# Altium integrated library TI Logic Boundary Scan.IntLib: 169 symbols (part 1 of 5)
Pins are listed as number, name and electrical type; pins without a type are passive.

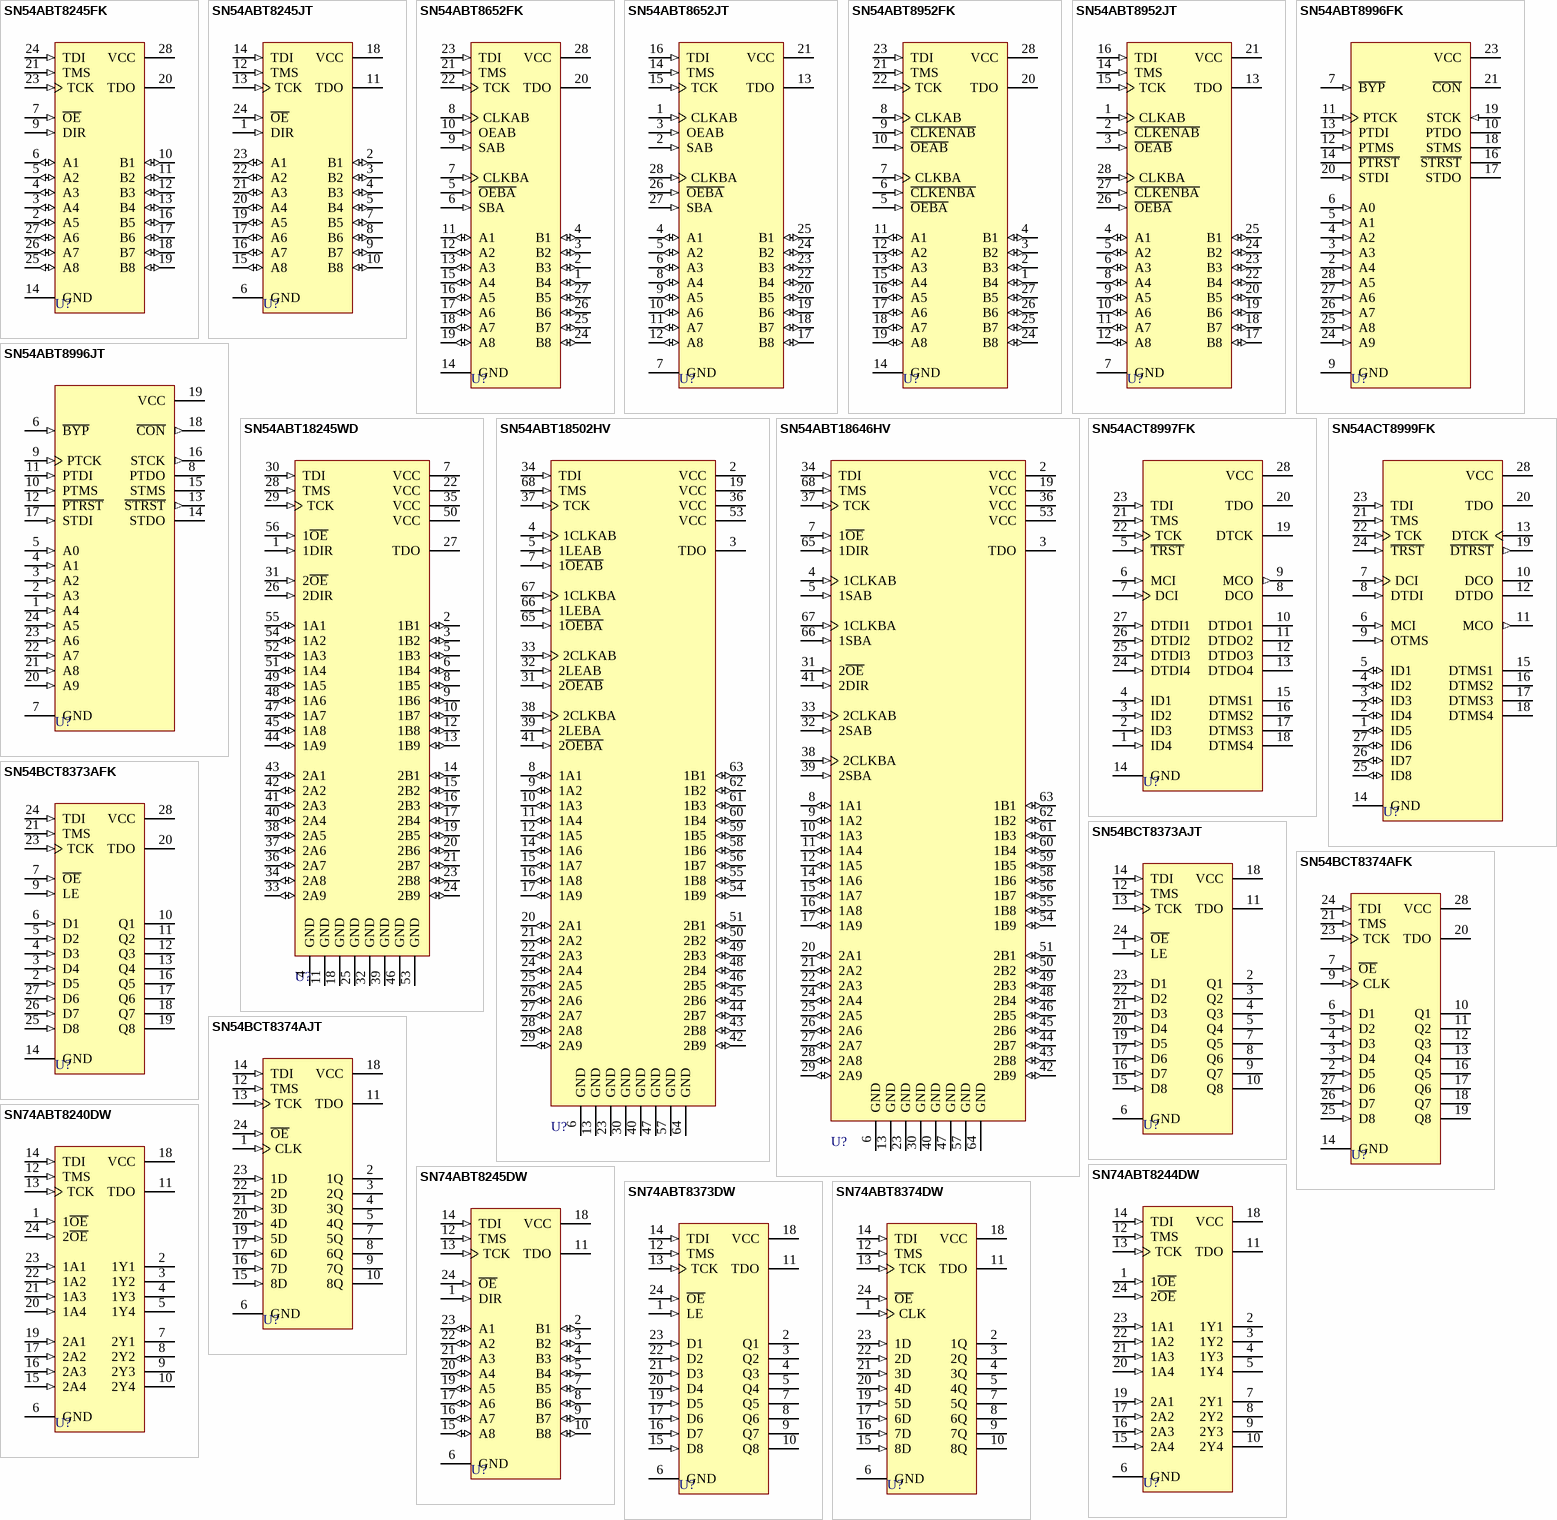
[diagram p0: symbols SN54ABT8245FK to SN74ABT8374DW]

## SN54ABT8245FK
designator U?
Scan Test Device with Octal Bus Transceiver; Note: Pin(s) 1,8,15,22 "No Connection" and not drawn.; Published: 8-Jun-2000; LatestRevisionDate: 17-Jul-2002; LatestRevisionNote: Re-released for DXP Platform.; DatasheetVersion: Dec-1996; PackageVersion: 1998; PackageReference: FK028C; Publisher: Altium Limited; PackageDescription: Leadless Chip Carrier; 28 Terminals; Body 11.4 x 11.4 mm; ComponentLink1Description: Manufacturer Link; ComponentLink1URL: http://www.ti.com/; ComponentLink2Description: Datasheet; ComponentLink2URL: http://www-s.ti.com/sc/ds/sn54abt8245.pdf
footprint FK028C (Leadless Chip Carrier; 28 Terminals; Body 11.4 x 11.4 mm)
signal-integrity model SN54ABT8245FK
pins: 2 A5 (io), 3 A4 (io), 4 A3 (io), 5 A2 (io), 6 A1 (io), 7 ~{OE} (in), 9 DIR (in), 10 B1 (io), 11 B2 (io), 12 B3 (io), 13 B4 (io), 14 GND (power), 16 B5 (io), 17 B6 (io), 18 B7 (io), 19 B8 (io), 20 TDO (hiz), 21 TMS (in), 23 TCK (in), 24 TDI (in), 25 A8 (io), 26 A7 (io), 27 A6 (io), 28 VCC (power)

## SN54ABT8245JT
designator U?
Scan Test Device with Octal Bus Transceiver; Published: 8-Jun-2000; LatestRevisionDate: 06-Jun-2005; LatestRevisionNote: Stylized 3D Model Added.; DatasheetVersion: Dec-1996; PackageVersion: Jan-1997; PackageReference: JT024C; Publisher: Altium Limited; PackageDescription: DIP; 24 Leads; Row Spacing 7.62 mm; Pitch 2.54 mm; Code_JEDEC: MS-001-AF; ComponentLink1Description: Manufacturer Link; ComponentLink1URL: http://www.ti.com/; ComponentLink2Description: Datasheet; ComponentLink2URL: http://www-s.ti.com/sc/ds/sn54abt8245.pdf
footprint JT024C (DIP; 24 Leads; Row Spacing 7.62 mm; Pitch 2.54 mm)
3D model JT024 (DIP; 24 Leads; Row Spacing 7.62 mm; Pitch 2.54 mm)
signal-integrity model SN54ABT8245JT
pins: 1 DIR (in), 2 B1 (io), 3 B2 (io), 4 B3 (io), 5 B4 (io), 6 GND (power), 7 B5 (io), 8 B6 (io), 9 B7 (io), 10 B8 (io), 11 TDO (hiz), 12 TMS (in), 13 TCK (in), 14 TDI (in), 15 A8 (io), 16 A7 (io), 17 A6 (io), 18 VCC (power), 19 A5 (io), 20 A4 (io), 21 A3 (io), 22 A2 (io), 23 A1 (io), 24 ~{OE} (in)

## SN54ABT8652FK
designator U?
Scan Test Device with Octal Bus Transceiver and Register; Published: 8-Jun-2000; LatestRevisionDate: 17-Jul-2002; LatestRevisionNote: Re-released for DXP Platform.; DatasheetVersion: Dec-1996; PackageVersion: 1998; PackageReference: FK028C; Publisher: Altium Limited; PackageDescription: Leadless Chip Carrier; 28 Terminals; Body 11.4 x 11.4 mm; ComponentLink1Description: Manufacturer Link; ComponentLink1URL: http://www.ti.com/; ComponentLink2Description: Datasheet; ComponentLink2URL: http://www-s.ti.com/sc/ds/sn54abt8652.pdf
footprint FK028C (Leadless Chip Carrier; 28 Terminals; Body 11.4 x 11.4 mm)
signal-integrity model SN54ABT8652FK
pins: 1 B4 (io), 2 B3 (io), 3 B2 (io), 4 B1 (io), 5 ~{OEBA} (in), 6 SBA (in), 7 CLKBA (in), 8 CLKAB (in), 9 SAB (in), 10 OEAB (in), 11 A1 (io), 12 A2 (io), 13 A3 (io), 14 GND (power), 15 A4 (io), 16 A5 (io), 17 A6 (io), 18 A7 (io), 19 A8 (io), 20 TDO (hiz), 21 TMS (in), 22 TCK (in), 23 TDI (in), 24 B8 (io), 25 B7 (io), 26 B6 (io), 27 B5 (io), 28 VCC (power)

## SN54ABT8652JT
designator U?
Scan Test Device with Octal Bus Transceiver and Register; Published: 8-Jun-2000; LatestRevisionDate: 06-Jun-2005; LatestRevisionNote: Stylized 3D Model Added.; DatasheetVersion: Dec-1996; PackageVersion: Jan-1997; PackageReference: JT028C; Publisher: Altium Limited; PackageDescription: DIP; 28 Leads; Row Spacing 7.62 mm; Pitch 2.54 mm; ComponentLink1Description: Manufacturer Link; ComponentLink1URL: http://www.ti.com/; ComponentLink2Description: Datasheet; ComponentLink2URL: http://www-s.ti.com/sc/ds/sn54abt8652.pdf
footprint JT028C (DIP; 28 Leads; Row Spacing 7.62 mm; Pitch 2.54 mm)
3D model JT028 (DIP; 28 Leads; Row Spacing 7.62 mm; Pitch 2.54 mm)
signal-integrity model SN54ABT8652JT
pins: 1 CLKAB (in), 2 SAB (in), 3 OEAB (in), 4 A1 (io), 5 A2 (io), 6 A3 (io), 7 GND (power), 8 A4 (io), 9 A5 (io), 10 A6 (io), 11 A7 (io), 12 A8 (io), 13 TDO (hiz), 14 TMS (in), 15 TCK (in), 16 TDI (in), 17 B8 (io), 18 B7 (io), 19 B6 (io), 20 B5 (io), 21 VCC (power), 22 B4 (io), 23 B3 (io), 24 B2 (io), 25 B1 (io), 26 ~{OEBA} (in), 27 SBA (in), 28 CLKBA (in)

## SN54ABT8952FK
designator U?
Scan Test Device with Octal Registered Bus Transceivers; Published: 8-Jun-2000; LatestRevisionDate: 17-Jul-2002; LatestRevisionNote: Re-released for DXP Platform.; DatasheetVersion: Jun-1996; PackageVersion: 1998; PackageReference: FK028; Publisher: Altium Limited; PackageDescription: Leadless Chip Carrier; 28 Terminals; Body 11.4 x 11.4 mm; ComponentLink1Description: Manufacturer Link; ComponentLink1URL: http://www.ti.com/; ComponentLink2Description: Datasheet; ComponentLink2URL: http://www-s.ti.com/sc/ds/sn74abt8952.pdf
footprint FK028 (Leadless Chip Carrier; 28 Terminals; Body 11.4 x 11.4 mm)
signal-integrity model SN54ABT8952FK
pins: 1 B4 (io), 2 B3 (io), 3 B2 (io), 4 B1 (io), 5 ~{OEBA} (in), 6 ~{CLKENBA} (in), 7 CLKBA (in), 8 CLKAB (in), 9 ~{CLKENAB} (in), 10 ~{OEAB} (in), 11 A1 (io), 12 A2 (io), 13 A3 (io), 14 GND (power), 15 A4 (io), 16 A5 (io), 17 A6 (io), 18 A7 (io), 19 A8 (io), 20 TDO (hiz), 21 TMS (in), 22 TCK (in), 23 TDI (in), 24 B8 (io), 25 B7 (io), 26 B6 (io), 27 B5 (io), 28 VCC (power)

## SN54ABT8952JT
designator U?
Scan Test Device with Octal Registered Bus Transceivers; Published: 8-Jun-2000; LatestRevisionDate: 06-Jun-2005; LatestRevisionNote: Stylized 3D Model Added.; DatasheetVersion: Jul-1996; PackageVersion: Jan-1997; PackageReference: JT028; Publisher: Altium Limited; PackageDescription: DIP; 28 Leads; Row Spacing 7.62 mm; Pitch 2.54 mm; ComponentLink1Description: Manufacturer Link; ComponentLink1URL: http://www.ti.com/; ComponentLink2Description: Datasheet; ComponentLink2URL: http://www-s.ti.com/sc/ds/sn74abt8952.pdf
footprint JT028 (DIP; 28 Leads; Row Spacing 7.62 mm; Pitch 2.54 mm)
3D model JT028 (DIP; 28 Leads; Row Spacing 7.62 mm; Pitch 2.54 mm)
signal-integrity model SN54ABT8952JT
pins: 1 CLKAB (in), 2 ~{CLKENAB} (in), 3 ~{OEAB} (in), 4 A1 (io), 5 A2 (io), 6 A3 (io), 7 GND (power), 8 A4 (io), 9 A5 (io), 10 A6 (io), 11 A7 (io), 12 A8 (io), 13 TDO (hiz), 14 TMS (in), 15 TCK (in), 16 TDI (in), 17 B8 (io), 18 B7 (io), 19 B6 (io), 20 B5 (io), 21 VCC (power), 22 B4 (io), 23 B3 (io), 24 B2 (io), 25 B1 (io), 26 ~{OEBA} (in), 27 ~{CLKENBA} (in), 28 CLKBA (in)

## SN54ABT8996FK
designator U?
10-Bit Addressable Scan Port Multidrop-Addressable IEEE Std 1149.1 (JTAG) Tap Transceiver; Note: Pins 1, 8, 15 and 22 - No connection and not drawn; Published: 8-Jun-2000; LatestRevisionDate: 17-Jul-2002; LatestRevisionNote: Re-released for DXP Platform.; DatasheetVersion: Apr-1999; PackageVersion: 1998; PackageReference: FK028; Publisher: Altium Limited; PackageDescription: Leadless Chip Carrier; 28 Terminals; Body 11.4 x 11.4 mm; ComponentLink1Description: Manufacturer Link; ComponentLink1URL: http://www.ti.com/; ComponentLink2Description: Datasheet; ComponentLink2URL: http://www-s.ti.com/sc/ds/sn74abt8996.pdf
footprint FK028 (Leadless Chip Carrier; 28 Terminals; Body 11.4 x 11.4 mm)
signal-integrity model SN54ABT8996FK
pins: 2 A4 (in), 3 A3 (in), 4 A2 (in), 5 A1 (in), 6 A0 (in), 7 ~{BYP} (in), 9 GND (power), 10 PTDO (hiz), 11 PTCK (in), 12 PTMS (in), 13 PTDI (in), 14 ~{PTRST} (hiz), 16 ~{STRST} (hiz), 17 STDO (hiz), 18 STMS (hiz), 19 STCK (in), 20 STDI (in), 21 ~{CON} (hiz), 23 VCC (power), 24 A9 (in), 25 A8 (in), 26 A7 (in), 27 A6 (in), 28 A5 (in)

## SN54ABT8996JT
designator U?
10-Bit Addressable Scan Port Multidrop-Addressable IEEE Std 1149.1 (JTAG) Tap Transceiver; Published: 8-Jun-2000; LatestRevisionDate: 06-Jun-2005; LatestRevisionNote: Stylized 3D Model Added.; DatasheetVersion: Apr-1999; PackageVersion: Jan-1997; PackageReference: JT024; Publisher: Altium Limited; PackageDescription: DIP; 24 Leads; Row Spacing 7.62 mm; Pitch 2.54 mm; Code_JEDEC: MS-001-AF; ComponentLink1Description: Manufacturer Link; ComponentLink1URL: http://www.ti.com/; ComponentLink2Description: Datasheet; ComponentLink2URL: http://www-s.ti.com/sc/ds/sn74abt8996.pdf
footprint JT024 (DIP; 24 Leads; Row Spacing 7.62 mm; Pitch 2.54 mm)
3D model JT024 (DIP; 24 Leads; Row Spacing 7.62 mm; Pitch 2.54 mm)
signal-integrity model SN54ABT8996JT
pins: 1 A4 (in), 2 A3 (in), 3 A2 (in), 4 A1 (in), 5 A0 (in), 6 ~{BYP} (in), 7 GND (power), 8 PTDO (hiz), 9 PTCK (in), 10 PTMS (in), 11 PTDI (in), 12 ~{PTRST} (hiz), 13 ~{STRST} (out), 14 STDO (hiz), 15 STMS (hiz), 16 STCK (out), 17 STDI (in), 18 ~{CON} (out), 19 VCC (power), 20 A9 (in), 21 A8 (in), 22 A7 (in), 23 A6 (in), 24 A5 (in)

## SN54ABT18245WD
designator U?
Scan Test Device with 18-Bit Bus Transceiver; ComponentAvailability: Obsolete; Published: 8-Jun-2000; LatestRevisionDate: 06-Jun-2005; LatestRevisionNote: Stylized 3D Model Added.; DatasheetVersion: Jun-1993; PackageVersion: Jan-1998; PackageReference: WD056; Publisher: Altium Limited; PackageDescription: DFP; 56 Leads; Body 18.8 x 9.9 mm (LxW max); Pitch 0.635 mm; Code_JEDEC: MO-146-AB; ComponentLink1Description: Manufacturer Link; ComponentLink1URL: http://www.ti.com/; ComponentLink2Description: Datasheet; ComponentLink2URL: http://www-s.ti.com/sc/ds/sn54abt18245.pdf
footprint WD056 (DFP; 56 Leads; Body 18.8 x 9.9 mm (LxW max); Pitch 0.635 mm)
3D model WD056 (DFP; 56 Leads; Body 18.8 x 9.9 mm (LxW max); Pitch 0.635 mm)
signal-integrity model SN54ABT18245WD
pins: 1 1DIR (in), 2 1B1 (io), 3 1B2 (io), 4 GND (power), 5 1B3 (io), 6 1B4 (io), 7 VCC (power), 8 1B5 (io), 9 1B6 (io), 10 1B7 (io), 11 GND (power), 12 1B8 (io), 13 1B9 (io), 14 2B1 (io), 15 2B2 (io), 16 2B3 (io), 17 2B4 (io), 18 GND (power), 19 2B5 (io), 20 2B6 (io), 21 2B7 (io), 22 VCC (power), 23 2B8 (io), 24 2B9 (io), 25 GND (power), 26 2DIR (in), 27 TDO (hiz), 28 TMS (in), 29 TCK (in), 30 TDI (in), 31 2~{OE} (in), 32 GND (power), 33 2A9 (io), 34 2A8 (io), 35 VCC (power), 36 2A7 (io), 37 2A6 (io), 38 2A5 (io), 39 GND (power), 40 2A4 (io), 41 2A3 (io), 42 2A2 (io), 43 2A1 (io), 44 1A9 (io), 45 1A8 (io), 46 GND (power), 47 1A7 (io), 48 1A6 (io), 49 1A5 (io), 50 VCC (power), 51 1A4 (io), 52 1A3 (io), 53 GND (power), 54 1A2 (io), 55 1A1 (io), 56 1~{OE} (in)

## SN54ABT18502HV
designator U?
Scan Test Device with 18-Bit Registered Bus Transceiver; Note: Pin(s) 1,18,35,52 "No Connection" and not drawn.; Published: 8-Jun-2000; LatestRevisionDate: 13-Apr-2006; LatestRevisionNote: IPC-7351 Footprint Added.; DatasheetVersion: Aug-1994; PackageVersion: Oct-1996; PackageReference: HV068C; Publisher: Altium Limited; PackageDescription: 68-Pin Ceramic Quad Flat Pack 0.635 mm Pitch; ComponentLink1Description: Manufacturer Link; ComponentLink1URL: http://www.ti.com/; ComponentLink2Description: Datasheet; ComponentLink2URL: http://www-s.ti.com/sc/ds/sn54abt18502.pdf
footprint HV068C_N (CQFP, 68-Leads, Body 12.5x12.5mm; Pitch 0.635mm, Gullwing Leadform, IPC Medium Density)
footprint HV068C_L (CQFP, 68-Leads, Body 12.5x12.5mm; Pitch 0.635mm, Gullwing Leadform, IPC High Density)
footprint HV068C_M (CQFP, 68-Leads, Body 12.5x12.5mm; Pitch 0.635mm, Gullwing Leadform, IPC Low Density)
3D model SN54ABT18502-HV068 (68-Pin Ceramic Quad Flat Pack 0.635 mm Pitch)
signal-integrity model SN54ABT18502HV
pins: 2 VCC (power), 3 TDO (hiz), 4 1CLKAB (in), 5 1LEAB (in), 6 GND (power), 7 1~{OEAB} (in), 8 1A1 (io), 9 1A2 (io), 10 1A3 (io), 11 1A4 (io), 12 1A5 (io), 13 GND (power), 14 1A6 (io), 15 1A7 (io), 16 1A8 (io), 17 1A9 (io), 19 VCC (power), 20 2A1 (io), 21 2A2 (io), 22 2A3 (io), 23 GND (power), 24 2A4 (io), 25 2A5 (io), 26 2A6 (io), 27 2A7 (io), 28 2A8 (io), 29 2A9 (io), 30 GND (power), 31 2~{OEAB} (in), 32 2LEAB (in), 33 2CLKAB (in), 34 TDI (in), 36 VCC (power), 37 TCK (in), 38 2CLKBA (in), 39 2LEBA (in), 40 GND (power), 41 2~{OEBA} (in), 42 2B9 (io), 43 2B8 (io), 44 2B7 (io), 45 2B6 (io), 46 2B5 (io), 47 GND (power), 48 2B4 (io), 49 2B3 (io), 50 2B2 (io), 51 2B1 (io), 53 VCC (power), 54 1B9 (io), 55 1B8 (io), 56 1B7 (io), 57 GND (power), 58 1B6 (io), 59 1B5 (io), 60 1B4 (io), 61 1B3 (io), 62 1B2 (io), 63 1B1 (io), 64 GND (power), 65 1~{OEBA} (in), 66 1LEBA (in), 67 1CLKBA (in), 68 TMS (in)

## SN54ABT18646HV
designator U?
Scan Test Device with 18-Bit Transceiver and Register; Note: Pin(s) 1,18,35,52 "No Connection" and not drawn.; Published: 8-Jun-2000; LatestRevisionDate: 13-Apr-2006; LatestRevisionNote: IPC-7351 Footprint Added.; DatasheetVersion: Aug-1994; PackageVersion: Oct-1996; PackageReference: HV068C; Publisher: Altium Limited; PackageDescription: 68-Pin Ceramic Quad Flat Pack 0.635 mm Pitch; ComponentLink1Description: Manufacturer Link; ComponentLink1URL: http://www.ti.com/
footprint HV068C_N (CQFP, 68-Leads, Body 12.5x12.5mm; Pitch 0.635mm, Gullwing Leadform, IPC Medium Density)
footprint HV068C_L (CQFP, 68-Leads, Body 12.5x12.5mm; Pitch 0.635mm, Gullwing Leadform, IPC High Density)
footprint HV068C_M (CQFP, 68-Leads, Body 12.5x12.5mm; Pitch 0.635mm, Gullwing Leadform, IPC Low Density)
3D model SN54ABT18646-HV068 (68-Pin Ceramic Quad Flat Pack 0.635 mm Pitch)
signal-integrity model SN54ABT18646HV
pins: 2 VCC (power), 3 TDO (hiz), 4 1CLKAB (in), 5 1SAB (in), 6 GND (power), 7 1~{OE} (in), 8 1A1 (io), 9 1A2 (io), 10 1A3 (io), 11 1A4 (io), 12 1A5 (io), 13 GND (power), 14 1A6 (io), 15 1A7 (io), 16 1A8 (io), 17 1A9 (io), 19 VCC (power), 20 2A1 (io), 21 2A2 (io), 22 2A3 (io), 23 GND (power), 24 2A4 (io), 25 2A5 (io), 26 2A6 (io), 27 2A7 (io), 28 2A8 (io), 29 2A9 (io), 30 GND (power), 31 2~{OE} (in), 32 2SAB (in), 33 2CLKAB (in), 34 TDI (in), 36 VCC (power), 37 TCK (in), 38 2CLKBA (in), 39 2SBA (in), 40 GND (power), 41 2DIR (in), 42 2B9 (io), 43 2B8 (io), 44 2B7 (io), 45 2B6 (io), 46 2B5 (io), 47 GND (power), 48 2B4 (io), 49 2B3 (io), 50 2B2 (io), 51 2B1 (io), 53 VCC (power), 54 1B9 (io), 55 1B8 (io), 56 1B7 (io), 57 GND (power), 58 1B6 (io), 59 1B5 (io), 60 1B4 (io), 61 1B3 (io), 62 1B2 (io), 63 1B1 (io), 64 GND (power), 65 1DIR (in), 66 1SBA (in), 67 1CLKBA (in), 68 TMS (in)

## SN54ACT8997FK
designator U?
Scan-Path Linker with 4-Bit Identification Bus Scan-Controlled IEEE STD 1149.1 (JTAG) TAP Concatenator; Published: 8-Jun-2000; LatestRevisionDate: 17-Jul-2002; LatestRevisionNote: Re-released for DXP Platform.; DatasheetVersion: Dec-1996; PackageVersion: 1998; PackageReference: FK028C; Publisher: Altium Limited; PackageDescription: Leadless Chip Carrier; 28 Terminals; Body 11.4 x 11.4 mm; ComponentLink1Description: Manufacturer Link; ComponentLink1URL: http://www.ti.com/; ComponentLink2Description: Datasheet; ComponentLink2URL: http://www-s.ti.com/sc/ds/sn54act8997.pdf
footprint FK028C (Leadless Chip Carrier; 28 Terminals; Body 11.4 x 11.4 mm)
signal-integrity model SN54ACT8997FK
pins: 1 ID4 (in), 2 ID3 (in), 3 ID2 (in), 4 ID1 (in), 5 ~{TRST} (in), 6 MCI (in), 7 DCI (in), 8 DCO (hiz), 9 MCO (out), 10 DTDO1 (hiz), 11 DTDO2 (hiz), 12 DTDO3 (hiz), 13 DTDO4 (hiz), 14 GND (power), 15 DTMS1 (hiz), 16 DTMS2 (hiz), 17 DTMS3 (hiz), 18 DTMS4 (hiz), 19 DTCK (hiz), 20 TDO (hiz), 21 TMS (in), 22 TCK (in), 23 TDI (in), 24 DTDI4 (in), 25 DTDI3 (in), 26 DTDI2 (in), 27 DTDI1 (in), 28 VCC (power)

## SN54ACT8999FK
designator U?
Scan-Path Selector with 8-Bit Bidirectional Data Bus Scan-Controlled Tap Multiplexer; Published: 8-Jun-2000; LatestRevisionDate: 17-Jul-2002; LatestRevisionNote: Re-released for DXP Platform.; DatasheetVersion: Dec-1996; PackageVersion: 1998; PackageReference: FK028; Publisher: Altium Limited; PackageDescription: Leadless Chip Carrier; 28 Terminals; Body 11.4 x 11.4 mm; ComponentLink1Description: Manufacturer Link; ComponentLink1URL: http://www.ti.com/; ComponentLink2Description: Datasheet; ComponentLink2URL: http://www-s.ti.com/sc/ds/sn74act8999.pdf
footprint FK028 (Leadless Chip Carrier; 28 Terminals; Body 11.4 x 11.4 mm)
signal-integrity model SN54ACT8999FK
pins: 1 ID5 (io), 2 ID4 (io), 3 ID3 (io), 4 ID2 (io), 5 ID1 (io), 6 MCI (in), 7 DCI (in), 8 DTDI (in), 9 OTMS (in), 10 DCO (hiz), 11 MCO (out), 12 DTDO (hiz), 13 DTCK (hiz), 14 GND (power), 15 DTMS1 (hiz), 16 DTMS2 (hiz), 17 DTMS3 (hiz), 18 DTMS4 (hiz), 19 ~{DTRST} (out), 20 TDO (hiz), 21 TMS (in), 22 TCK (in), 23 TDI (in), 24 ~{TRST} (in), 25 ID8 (io), 26 ID7 (io), 27 ID6 (io), 28 VCC (power)

## SN54BCT8373AFK
designator U?
Scan Test Device with Octal D-Type Latch; Note: Pin(s) 1,8,15,22 "No Connection" and not drawn.; Published: 8-Jun-2000; LatestRevisionDate: 17-Jul-2002; LatestRevisionNote: Re-released for DXP Platform.; DatasheetVersion: Jul-1996; PackageVersion: 1998; PackageReference: FK028C; Publisher: Altium Limited; PackageDescription: Leadless Chip Carrier; 28 Terminals; Body 11.4 x 11.4 mm; ComponentLink1Description: Manufacturer Link; ComponentLink1URL: http://www.ti.com/; ComponentLink2Description: Datasheet; ComponentLink2URL: http://www-s.ti.com/sc/ds/sn54bct8373a.pdf
footprint FK028C (Leadless Chip Carrier; 28 Terminals; Body 11.4 x 11.4 mm)
signal-integrity model SN54BCT8373AFK
pins: 2 D5 (in), 3 D4 (in), 4 D3 (in), 5 D2 (in), 6 D1 (in), 7 ~{OE} (in), 9 LE (in), 10 Q1 (hiz), 11 Q2 (hiz), 12 Q3 (hiz), 13 Q4 (hiz), 14 GND (power), 16 Q5 (hiz), 17 Q6 (hiz), 18 Q7 (hiz), 19 Q8 (hiz), 20 TDO (hiz), 21 TMS (in), 23 TCK (in), 24 TDI (in), 25 D8 (in), 26 D7 (in), 27 D6 (in), 28 VCC (power)

## SN54BCT8373AJT
designator U?
Scan Test Device with Octal D-Type Latch; Published: 8-Jun-2000; LatestRevisionDate: 13-Apr-2006; LatestRevisionNote: IPC-7351 Footprint Added.; DatasheetVersion: Jul-1996; PackageVersion: Mar-2000; PackageReference: DW024; Publisher: Altium Limited; PackageDescription: 24-Pin Plastic Small Outline Integrated Circuit 1.27 mm Pitch; Code_JEDEC: MS-013; ComponentLink1Description: Manufacturer Link; ComponentLink1URL: http://www.ti.com/; ComponentLink2Description: Datasheet; ComponentLink2URL: http://www-s.ti.com/sc/ds/sn54bct8373a.pdf
footprint DW024_N (SOIC, 24-Leads, Body 15.4x7.5mm, Pitch 1.27mm, IPC Medium Density)
footprint DW024_L (SOIC, 24-Leads, Body 15.4x7.5mm, Pitch 1.27mm, IPC High Density)
footprint DW024_M (SOIC, 24-Leads, Body 15.4x7.5mm, Pitch 1.27mm, IPC Low Density)
3D model DW024 (24-Pin Plastic Small Outline Integrated Circuit 1.27 mm Pitch)
signal-integrity model SN54BCT8373AJT
pins: 1 LE (in), 2 Q1 (hiz), 3 Q2 (hiz), 4 Q3 (hiz), 5 Q4 (hiz), 6 GND (power), 7 Q5 (hiz), 8 Q6 (hiz), 9 Q7 (hiz), 10 Q8 (hiz), 11 TDO (hiz), 12 TMS (in), 13 TCK (in), 14 TDI (in), 15 D8 (in), 16 D7 (in), 17 D6 (in), 18 VCC (power), 19 D5 (in), 20 D4 (in), 21 D3 (in), 22 D2 (in), 23 D1 (in), 24 ~{OE} (in)

## SN54BCT8374AFK
designator U?
Scan Test Device with Octal D-Type Edge-Triggered Flip-Flop; Note: Pin(s) 1,8,15,22 "No Connection" and not drawn.; Published: 8-Jun-2000; LatestRevisionDate: 17-Jul-2002; LatestRevisionNote: Re-released for DXP Platform.; DatasheetVersion: Jul-1996; PackageVersion: 1998; PackageReference: FK028C; Publisher: Altium Limited; PackageDescription: Leadless Chip Carrier; 28 Terminals; Body 11.4 x 11.4 mm; ComponentLink1Description: Manufacturer Link; ComponentLink1URL: http://www.ti.com/; ComponentLink2Description: Datasheet; ComponentLink2URL: http://www-s.ti.com/sc/ds/sn54bct8374a.pdf
footprint FK028C (Leadless Chip Carrier; 28 Terminals; Body 11.4 x 11.4 mm)
signal-integrity model SN54BCT8374AFK
pins: 2 D5 (in), 3 D4 (in), 4 D3 (in), 5 D2 (in), 6 D1 (in), 7 ~{OE} (in), 9 CLK (in), 10 Q1 (hiz), 11 Q2 (hiz), 12 Q3 (hiz), 13 Q4 (hiz), 14 GND (power), 16 Q5 (hiz), 17 Q6 (hiz), 18 Q7 (hiz), 19 Q8 (hiz), 20 TDO (hiz), 21 TMS (in), 23 TCK (in), 24 TDI (in), 25 D8 (in), 26 D7 (in), 27 D6 (in), 28 VCC (power)

## SN54BCT8374AJT
designator U?
Scan Test Device with Octal D-Type Edge-Triggered Flip-Flop; Published: 8-Jun-2000; LatestRevisionDate: 06-Jun-2005; LatestRevisionNote: Stylized 3D Model Added.; DatasheetVersion: Jul-1996; PackageVersion: Jan-1997; PackageReference: JT024C; Publisher: Altium Limited; PackageDescription: DIP; 24 Leads; Row Spacing 7.62 mm; Pitch 2.54 mm; Code_JEDEC: MS-001-AF; ComponentLink1Description: Manufacturer Link; ComponentLink1URL: http://www.ti.com/; ComponentLink2Description: Datasheet; ComponentLink2URL: http://www-s.ti.com/sc/ds/sn54bct8374a.pdf
footprint JT024C (DIP; 24 Leads; Row Spacing 7.62 mm; Pitch 2.54 mm)
3D model JT024 (DIP; 24 Leads; Row Spacing 7.62 mm; Pitch 2.54 mm)
signal-integrity model SN54BCT8374AJT
pins: 1 CLK (in), 2 1Q (hiz), 3 2Q (hiz), 4 3Q (hiz), 5 4Q (hiz), 6 GND (power), 7 5Q (hiz), 8 6Q (hiz), 9 7Q (hiz), 10 8Q (hiz), 11 TDO (hiz), 12 TMS (in), 13 TCK (in), 14 TDI (in), 15 8D (in), 16 7D (in), 17 6D (in), 18 VCC (power), 19 5D (in), 20 4D (in), 21 3D (in), 22 2D (in), 23 1D (in), 24 ~{OE} (in)

## SN74ABT8240DW
designator U?
Scan Test Device with Octal Buffer; Published: 8-Jun-2000; LatestRevisionDate: 13-Apr-2006; LatestRevisionNote: IPC-7351 Footprint Added.; DatasheetVersion: Jul-1994; PackageVersion: Mar-2000; PackageReference: DW024; Publisher: Altium Limited; PackageDescription: 24-Pin Plastic Small Outline Integrated Circuit 1.27 mm Pitch; Code_JEDEC: MS-013; ComponentLink1Description: Manufacturer Link; ComponentLink1URL: http://www.ti.com/
footprint DW024_N (SOIC, 24-Leads, Body 15.4x7.5mm, Pitch 1.27mm, IPC Medium Density)
footprint DW024_L (SOIC, 24-Leads, Body 15.4x7.5mm, Pitch 1.27mm, IPC High Density)
footprint DW024_M (SOIC, 24-Leads, Body 15.4x7.5mm, Pitch 1.27mm, IPC Low Density)
3D model DW024 (24-Pin Plastic Small Outline Integrated Circuit 1.27 mm Pitch)
signal-integrity model SN74ABT8240DW
pins: 1 1~{OE} (in), 2 1Y1 (hiz), 3 1Y2 (hiz), 4 1Y3 (hiz), 5 1Y4 (hiz), 6 GND (power), 7 2Y1 (hiz), 8 2Y2 (hiz), 9 2Y3 (hiz), 10 2Y4 (hiz), 11 TDO (hiz), 12 TMS (in), 13 TCK (in), 14 TDI (in), 15 2A4 (in), 16 2A3 (in), 17 2A2 (in), 18 VCC (power), 19 2A1 (in), 20 1A4 (in), 21 1A3 (in), 22 1A2 (in), 23 1A1 (in), 24 2~{OE} (in)

## SN74ABT8244DW
designator U?
Scan Test Device with Octal Buffer; Published: 8-Jun-2000; LatestRevisionDate: 13-Apr-2006; LatestRevisionNote: IPC-7351 Footprint Added.; DatasheetVersion: Jul-1994; PackageVersion: Mar-2000; PackageReference: DW024; Publisher: Altium Limited; PackageDescription: 24-Pin Plastic Small Outline Integrated Circuit 1.27 mm Pitch; Code_JEDEC: MS-013; ComponentLink1Description: Manufacturer Link; ComponentLink1URL: http://www.ti.com/
footprint DW024_N (SOIC, 24-Leads, Body 15.4x7.5mm, Pitch 1.27mm, IPC Medium Density)
footprint DW024_L (SOIC, 24-Leads, Body 15.4x7.5mm, Pitch 1.27mm, IPC High Density)
footprint DW024_M (SOIC, 24-Leads, Body 15.4x7.5mm, Pitch 1.27mm, IPC Low Density)
3D model DW024 (24-Pin Plastic Small Outline Integrated Circuit 1.27 mm Pitch)
signal-integrity model SN74ABT8244DW
pins: 1 1~{OE} (in), 2 1Y1 (hiz), 3 1Y2 (hiz), 4 1Y3 (hiz), 5 1Y4 (hiz), 6 GND (power), 7 2Y1 (hiz), 8 2Y2 (hiz), 9 2Y3 (hiz), 10 2Y4 (hiz), 11 TDO (hiz), 12 TMS (in), 13 TCK (in), 14 TDI (in), 15 2A4 (in), 16 2A3 (in), 17 2A2 (in), 18 VCC (power), 19 2A1 (in), 20 1A4 (in), 21 1A3 (in), 22 1A2 (in), 23 1A1 (in), 24 2~{OE} (in)

## SN74ABT8245DW
designator U?
Scan Test Device with Octal Bus Transceivers; Published: 8-Jun-2000; LatestRevisionDate: 13-Apr-2006; LatestRevisionNote: IPC-7351 Footprint Added.; DatasheetVersion: Dec-1996; PackageVersion: Mar-2000; PackageReference: DW024; Publisher: Altium Limited; PackageDescription: 24-Pin Plastic Small Outline Integrated Circuit 1.27 mm Pitch; Code_JEDEC: MS-013; ComponentLink1Description: Manufacturer Link; ComponentLink1URL: http://www.ti.com/; ComponentLink2Description: Datasheet; ComponentLink2URL: http://www-s.ti.com/sc/ds/sn74abt8245.pdf
footprint DW024_N (SOIC, 24-Leads, Body 15.4x7.5mm, Pitch 1.27mm, IPC Medium Density)
footprint DW024_L (SOIC, 24-Leads, Body 15.4x7.5mm, Pitch 1.27mm, IPC High Density)
footprint DW024_M (SOIC, 24-Leads, Body 15.4x7.5mm, Pitch 1.27mm, IPC Low Density)
3D model DW024 (24-Pin Plastic Small Outline Integrated Circuit 1.27 mm Pitch)
signal-integrity model SN74ABT8245DW
pins: 1 DIR (in), 2 B1 (io), 3 B2 (io), 4 B3 (io), 5 B4 (io), 6 GND (power), 7 B5 (io), 8 B6 (io), 9 B7 (io), 10 B8 (io), 11 TDO (hiz), 12 TMS (in), 13 TCK (in), 14 TDI (in), 15 A8 (io), 16 A7 (io), 17 A6 (io), 18 VCC (power), 19 A5 (io), 20 A4 (io), 21 A3 (io), 22 A2 (io), 23 A1 (io), 24 ~{OE} (in)

## SN74ABT8373DW
designator U?
Scan Test Device with Octal D-Type Latch; Published: 8-Jun-2000; LatestRevisionDate: 13-Apr-2006; LatestRevisionNote: IPC-7351 Footprint Added.; DatasheetVersion: Jul-1994; PackageVersion: Mar-2000; PackageReference: DW024; Publisher: Altium Limited; PackageDescription: 24-Pin Plastic Small Outline Integrated Circuit 1.27 mm Pitch; Code_JEDEC: MS-013; ComponentLink1Description: Manufacturer Link; ComponentLink1URL: http://www.ti.com/
footprint DW024_N (SOIC, 24-Leads, Body 15.4x7.5mm, Pitch 1.27mm, IPC Medium Density)
footprint DW024_L (SOIC, 24-Leads, Body 15.4x7.5mm, Pitch 1.27mm, IPC High Density)
footprint DW024_M (SOIC, 24-Leads, Body 15.4x7.5mm, Pitch 1.27mm, IPC Low Density)
3D model DW024 (24-Pin Plastic Small Outline Integrated Circuit 1.27 mm Pitch)
signal-integrity model SN74ABT8373DW
pins: 1 LE (in), 2 Q1 (hiz), 3 Q2 (hiz), 4 Q3 (hiz), 5 Q4 (hiz), 6 GND (power), 7 Q5 (hiz), 8 Q6 (hiz), 9 Q7 (hiz), 10 Q8 (hiz), 11 TDO (hiz), 12 TMS (in), 13 TCK (in), 14 TDI (in), 15 D8 (in), 16 D7 (in), 17 D6 (in), 18 VCC (power), 19 D5 (in), 20 D4 (in), 21 D3 (in), 22 D2 (in), 23 D1 (in), 24 ~{OE} (in)

## SN74ABT8374DW
designator U?
Scan Test Device with Octal D-Type Edge-Triggered Flip-Flop; Published: 8-Jun-2000; LatestRevisionDate: 13-Apr-2006; LatestRevisionNote: IPC-7351 Footprint Added.; DatasheetVersion: Jul-1994; PackageVersion: Mar-2000; PackageReference: DW024; Publisher: Altium Limited; PackageDescription: 24-Pin Plastic Small Outline Integrated Circuit 1.27 mm Pitch; Code_JEDEC: MS-013; ComponentLink1Description: Manufacturer Link; ComponentLink1URL: http://www.ti.com/
footprint DW024_N (SOIC, 24-Leads, Body 15.4x7.5mm, Pitch 1.27mm, IPC Medium Density)
footprint DW024_L (SOIC, 24-Leads, Body 15.4x7.5mm, Pitch 1.27mm, IPC High Density)
footprint DW024_M (SOIC, 24-Leads, Body 15.4x7.5mm, Pitch 1.27mm, IPC Low Density)
3D model DW024 (24-Pin Plastic Small Outline Integrated Circuit 1.27 mm Pitch)
signal-integrity model SN74ABT8374DW
pins: 1 CLK (in), 2 1Q (hiz), 3 2Q (hiz), 4 3Q (hiz), 5 4Q (hiz), 6 GND (power), 7 5Q (hiz), 8 6Q (hiz), 9 7Q (hiz), 10 8Q (hiz), 11 TDO (hiz), 12 TMS (in), 13 TCK (in), 14 TDI (in), 15 8D (in), 16 7D (in), 17 6D (in), 18 VCC (power), 19 5D (in), 20 4D (in), 21 3D (in), 22 2D (in), 23 1D (in), 24 ~{OE} (in)

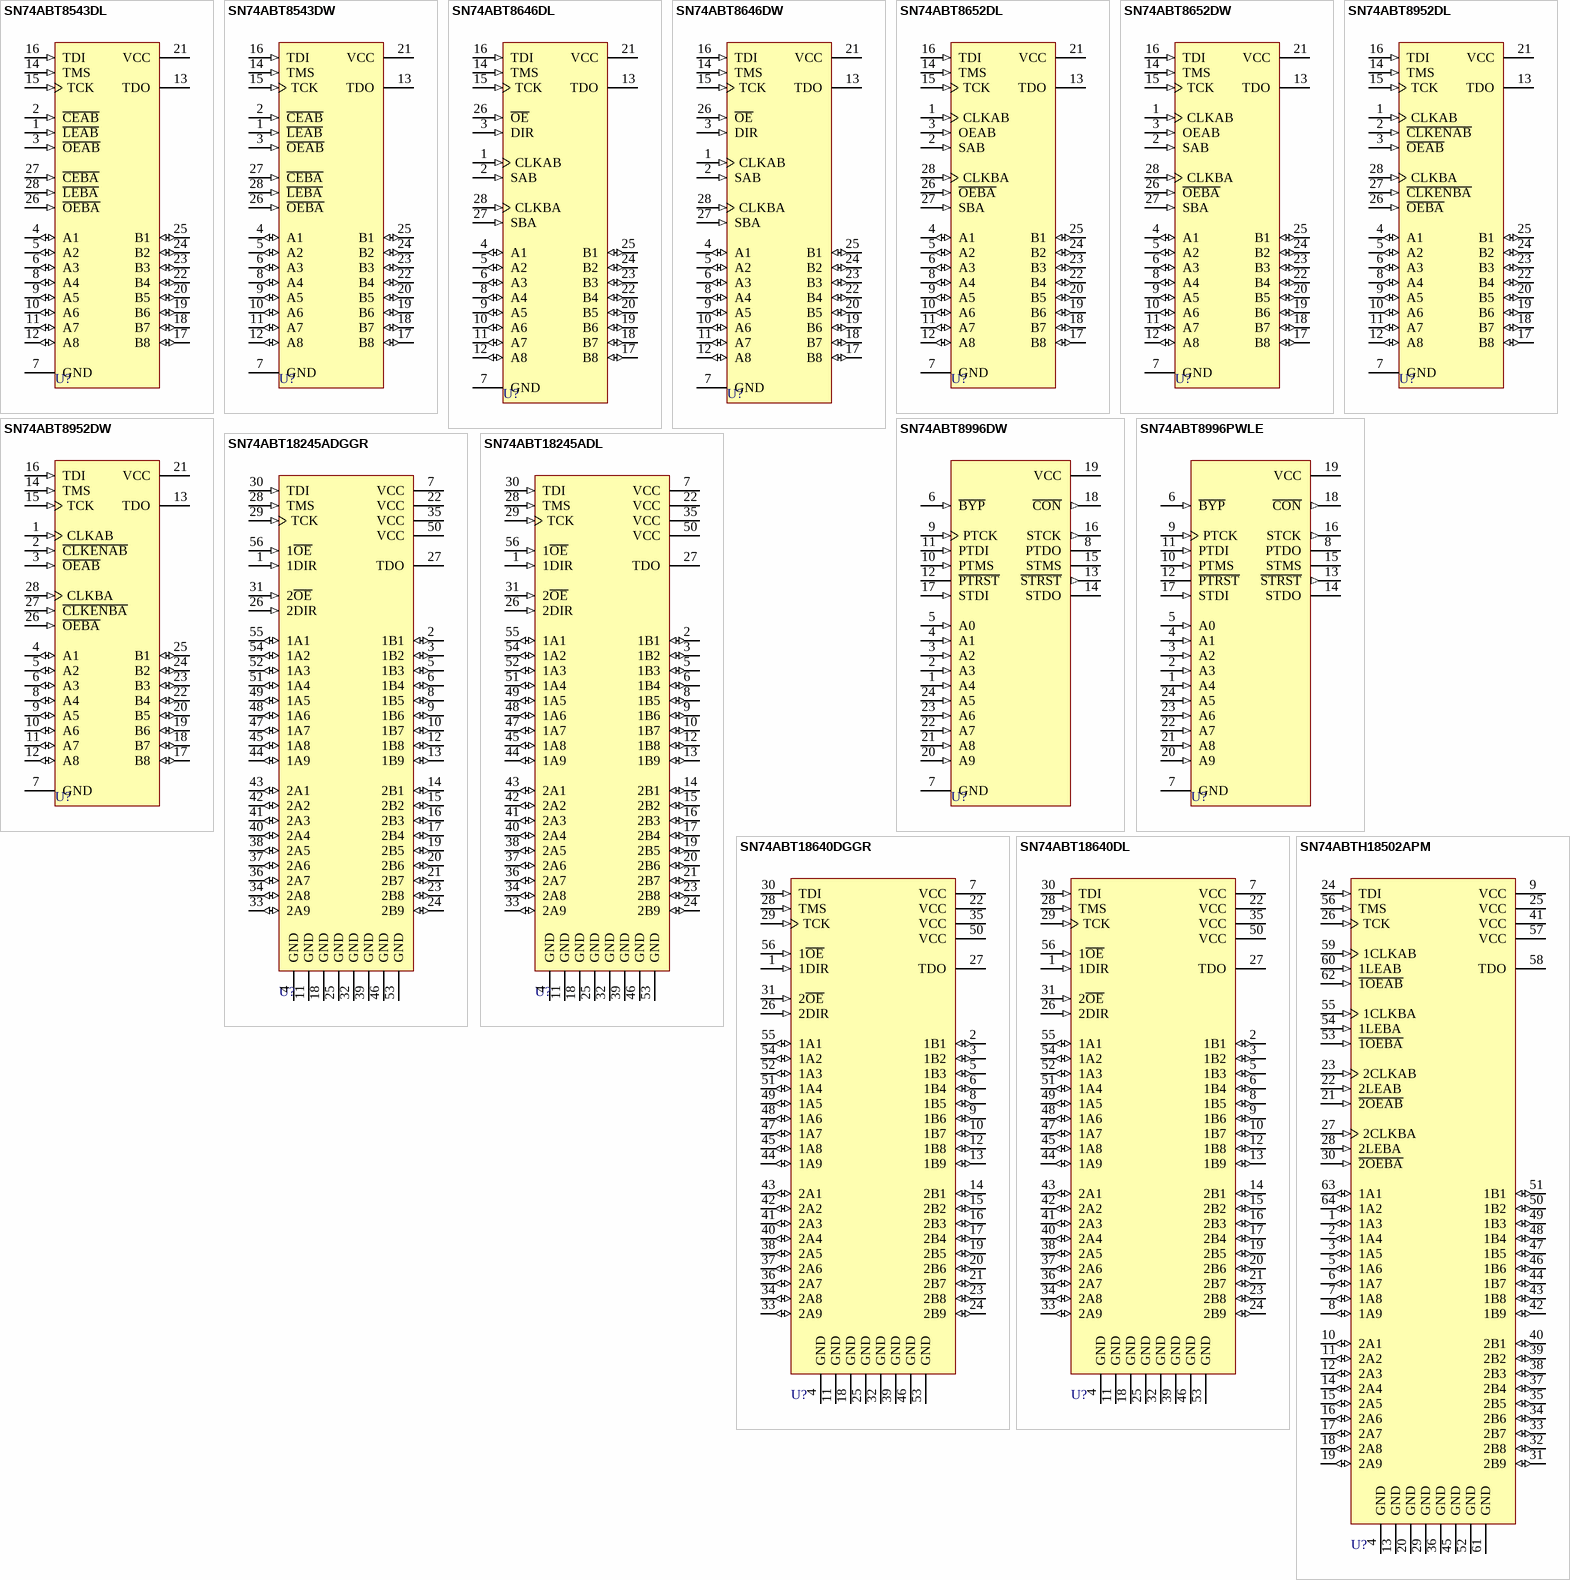
[diagram p1: symbols SN74ABT8543DL to SN74ABTH18502APM]

## SN74ABT8543DL
designator U?
Scan Test Device with Octal Registered Bus Transceivers; Published: 8-Jun-2000; LatestRevisionDate: 06-Jun-2005; LatestRevisionNote: Stylized 3D Model Added.; DatasheetVersion: Jul-1996; PackageVersion: Dec-2001; PackageReference: DL028; Publisher: Altium Limited; PackageDescription: SSOP; 28 Leads; Body Width 7.5 mm; Pitch 0.635 mm; Code_JEDEC: MO-118-AC; ComponentLink1Description: Manufacturer Link; ComponentLink1URL: http://www.ti.com/; ComponentLink2Description: Datasheet; ComponentLink2URL: http://www-s.ti.com/sc/ds/sn74abt8543.pdf
footprint DL028 (SSOP; 28 Leads; Body Width 7.5 mm; Pitch 0.635 mm)
3D model DL028 (SSOP; 28 Leads; Body Width 7.5 mm; Pitch 0.635 mm)
signal-integrity model SN74ABT8543DL
pins: 1 ~{LEAB} (in), 2 ~{CEAB} (in), 3 ~{OEAB} (in), 4 A1 (io), 5 A2 (io), 6 A3 (io), 7 GND (power), 8 A4 (io), 9 A5 (io), 10 A6 (io), 11 A7 (io), 12 A8 (io), 13 TDO (hiz), 14 TMS (in), 15 TCK (in), 16 TDI (in), 17 B8 (io), 18 B7 (io), 19 B6 (io), 20 B5 (io), 21 VCC (power), 22 B4 (io), 23 B3 (io), 24 B2 (io), 25 B1 (io), 26 ~{OEBA} (in), 27 ~{CEBA} (in), 28 ~{LEBA} (in)

## SN74ABT8543DW
designator U?
Scan Test Device with Octal Registered Bus Transceivers; Published: 8-Jun-2000; LatestRevisionDate: 13-Apr-2006; LatestRevisionNote: IPC-7351 Footprint Added.; DatasheetVersion: Jul-1996; PackageVersion: Mar-2000; PackageReference: DW028; Publisher: Altium Limited; PackageDescription: 28-Pin Plastic Small Outline Integrated Circuit 1.27 mm Pitch; Code_JEDEC: MS-013; ComponentLink1Description: Manufacturer Link; ComponentLink1URL: http://www.ti.com/; ComponentLink2Description: Datasheet; ComponentLink2URL: http://www-s.ti.com/sc/ds/sn74abt8543.pdf
footprint DW028_N (SOIC, 28-Leads, Body 17.9x7.5mm, Pitch 1.27mm, IPC Medium Density)
footprint DW028_L (SOIC, 28-Leads, Body 17.9x7.5mm, Pitch 1.27mm, IPC High Density)
footprint DW028_M (SOIC, 28-Leads, Body 17.9x7.5mm, Pitch 1.27mm, IPC Low Density)
3D model DW028 (28-Pin Plastic Small Outline Integrated Circuit 1.27 mm Pitch)
signal-integrity model SN74ABT8543DW
pins: 1 ~{LEAB} (in), 2 ~{CEAB} (in), 3 ~{OEAB} (in), 4 A1 (io), 5 A2 (io), 6 A3 (io), 7 GND (power), 8 A4 (io), 9 A5 (io), 10 A6 (io), 11 A7 (io), 12 A8 (io), 13 TDO (hiz), 14 TMS (in), 15 TCK (in), 16 TDI (in), 17 B8 (io), 18 B7 (io), 19 B6 (io), 20 B5 (io), 21 VCC (power), 22 B4 (io), 23 B3 (io), 24 B2 (io), 25 B1 (io), 26 ~{OEBA} (in), 27 ~{CEBA} (in), 28 ~{LEBA} (in)

## SN74ABT8646DL
designator U?
Scan Test Device with Octal Bus Transceivers and Registers; Published: 8-Jun-2000; LatestRevisionDate: 06-Jun-2005; LatestRevisionNote: Stylized 3D Model Added.; DatasheetVersion: Jul-1996; PackageVersion: Dec-2001; PackageReference: DL028; Publisher: Altium Limited; PackageDescription: SSOP; 28 Leads; Body Width 7.5 mm; Pitch 0.635 mm; Code_JEDEC: MO-118-AC; ComponentLink1Description: Manufacturer Link; ComponentLink1URL: http://www.ti.com/; ComponentLink2Description: Datasheet; ComponentLink2URL: http://www-s.ti.com/sc/ds/sn74abt8646.pdf
footprint DL028 (SSOP; 28 Leads; Body Width 7.5 mm; Pitch 0.635 mm)
3D model DL028 (SSOP; 28 Leads; Body Width 7.5 mm; Pitch 0.635 mm)
signal-integrity model SN74ABT8646DL
pins: 1 CLKAB (in), 2 SAB (in), 3 DIR (in), 4 A1 (io), 5 A2 (io), 6 A3 (io), 7 GND (power), 8 A4 (io), 9 A5 (io), 10 A6 (io), 11 A7 (io), 12 A8 (io), 13 TDO (hiz), 14 TMS (in), 15 TCK (in), 16 TDI (in), 17 B8 (io), 18 B7 (io), 19 B6 (io), 20 B5 (io), 21 VCC (power), 22 B4 (io), 23 B3 (io), 24 B2 (io), 25 B1 (io), 26 ~{OE} (in), 27 SBA (in), 28 CLKBA (in)

## SN74ABT8646DW
designator U?
Scan Test Device with Octal Bus Transceivers and Registers; Published: 8-Jun-2000; LatestRevisionDate: 13-Apr-2006; LatestRevisionNote: IPC-7351 Footprint Added.; DatasheetVersion: Jul-1996; PackageVersion: Mar-2000; PackageReference: DW028; Publisher: Altium Limited; PackageDescription: 28-Pin Plastic Small Outline Integrated Circuit 1.27 mm Pitch; Code_JEDEC: MS-013; ComponentLink1Description: Manufacturer Link; ComponentLink1URL: http://www.ti.com/; ComponentLink2Description: Datasheet; ComponentLink2URL: http://www-s.ti.com/sc/ds/sn74abt8646.pdf
footprint DW028_N (SOIC, 28-Leads, Body 17.9x7.5mm, Pitch 1.27mm, IPC Medium Density)
footprint DW028_L (SOIC, 28-Leads, Body 17.9x7.5mm, Pitch 1.27mm, IPC High Density)
footprint DW028_M (SOIC, 28-Leads, Body 17.9x7.5mm, Pitch 1.27mm, IPC Low Density)
3D model DW028 (28-Pin Plastic Small Outline Integrated Circuit 1.27 mm Pitch)
signal-integrity model SN74ABT8646DW
pins: 1 CLKAB (in), 2 SAB (in), 3 DIR (in), 4 A1 (io), 5 A2 (io), 6 A3 (io), 7 GND (power), 8 A4 (io), 9 A5 (io), 10 A6 (io), 11 A7 (io), 12 A8 (io), 13 TDO (hiz), 14 TMS (in), 15 TCK (in), 16 TDI (in), 17 B8 (io), 18 B7 (io), 19 B6 (io), 20 B5 (io), 21 VCC (power), 22 B4 (io), 23 B3 (io), 24 B2 (io), 25 B1 (io), 26 ~{OE} (in), 27 SBA (in), 28 CLKBA (in)

## SN74ABT8652DL
designator U?
Scan Test Device with Octal Bus Transceivers and Registers; Published: 8-Jun-2000; LatestRevisionDate: 06-Jun-2005; LatestRevisionNote: Stylized 3D Model Added.; DatasheetVersion: Dec-1996; PackageVersion: Dec-2001; PackageReference: DL028; Publisher: Altium Limited; PackageDescription: SSOP; 28 Leads; Body Width 7.5 mm; Pitch 0.635 mm; Code_JEDEC: MO-118-AC; ComponentLink1Description: Manufacturer Link; ComponentLink1URL: http://www.ti.com/; ComponentLink2Description: Datasheet; ComponentLink2URL: http://www-s.ti.com/sc/ds/sn74abt8652.pdf
footprint DL028 (SSOP; 28 Leads; Body Width 7.5 mm; Pitch 0.635 mm)
3D model DL028 (SSOP; 28 Leads; Body Width 7.5 mm; Pitch 0.635 mm)
signal-integrity model SN74ABT8652DL
pins: 1 CLKAB (in), 2 SAB (in), 3 OEAB (in), 4 A1 (io), 5 A2 (io), 6 A3 (io), 7 GND (power), 8 A4 (io), 9 A5 (io), 10 A6 (io), 11 A7 (io), 12 A8 (io), 13 TDO (hiz), 14 TMS (in), 15 TCK (in), 16 TDI (in), 17 B8 (io), 18 B7 (io), 19 B6 (io), 20 B5 (io), 21 VCC (power), 22 B4 (io), 23 B3 (io), 24 B2 (io), 25 B1 (io), 26 ~{OEBA} (in), 27 SBA (in), 28 CLKBA (in)

## SN74ABT8652DW
designator U?
Scan Test Device with Octal Bus Transceivers and Registers; Published: 8-Jun-2000; LatestRevisionDate: 13-Apr-2006; LatestRevisionNote: IPC-7351 Footprint Added.; DatasheetVersion: Dec-1996; PackageVersion: Mar-2000; PackageReference: DW028; Publisher: Altium Limited; PackageDescription: 28-Pin Plastic Small Outline Integrated Circuit 1.27 mm Pitch; Code_JEDEC: MS-013; ComponentLink1Description: Manufacturer Link; ComponentLink1URL: http://www.ti.com/; ComponentLink2Description: Datasheet; ComponentLink2URL: http://www-s.ti.com/sc/ds/sn74abt8652.pdf
footprint DW028_N (SOIC, 28-Leads, Body 17.9x7.5mm, Pitch 1.27mm, IPC Medium Density)
footprint DW028_L (SOIC, 28-Leads, Body 17.9x7.5mm, Pitch 1.27mm, IPC High Density)
footprint DW028_M (SOIC, 28-Leads, Body 17.9x7.5mm, Pitch 1.27mm, IPC Low Density)
3D model DW028 (28-Pin Plastic Small Outline Integrated Circuit 1.27 mm Pitch)
signal-integrity model SN74ABT8652DW
pins: 1 CLKAB (in), 2 SAB (in), 3 OEAB (in), 4 A1 (io), 5 A2 (io), 6 A3 (io), 7 GND (power), 8 A4 (io), 9 A5 (io), 10 A6 (io), 11 A7 (io), 12 A8 (io), 13 TDO (hiz), 14 TMS (in), 15 TCK (in), 16 TDI (in), 17 B8 (io), 18 B7 (io), 19 B6 (io), 20 B5 (io), 21 VCC (power), 22 B4 (io), 23 B3 (io), 24 B2 (io), 25 B1 (io), 26 ~{OEBA} (in), 27 SBA (in), 28 CLKBA (in)

## SN74ABT8952DL
designator U?
Scan Test Device with Octal Registered Bus Transceivers; Published: 8-Jun-2000; LatestRevisionDate: 06-Jun-2005; LatestRevisionNote: Stylized 3D Model Added.; DatasheetVersion: Jul-1996; PackageVersion: Dec-2001; PackageReference: DL028; Publisher: Altium Limited; PackageDescription: SSOP; 28 Leads; Body Width 7.5 mm; Pitch 0.635 mm; Code_JEDEC: MO-118-AC; ComponentLink1Description: Manufacturer Link; ComponentLink1URL: http://www.ti.com/; ComponentLink2Description: Datasheet; ComponentLink2URL: http://www-s.ti.com/sc/ds/sn74abt8952.pdf
footprint DL028 (SSOP; 28 Leads; Body Width 7.5 mm; Pitch 0.635 mm)
3D model DL028 (SSOP; 28 Leads; Body Width 7.5 mm; Pitch 0.635 mm)
signal-integrity model SN74ABT8952DL
pins: 1 CLKAB (in), 2 ~{CLKENAB} (in), 3 ~{OEAB} (in), 4 A1 (io), 5 A2 (io), 6 A3 (io), 7 GND (power), 8 A4 (io), 9 A5 (io), 10 A6 (io), 11 A7 (io), 12 A8 (io), 13 TDO (hiz), 14 TMS (in), 15 TCK (in), 16 TDI (in), 17 B8 (io), 18 B7 (io), 19 B6 (io), 20 B5 (io), 21 VCC (power), 22 B4 (io), 23 B3 (io), 24 B2 (io), 25 B1 (io), 26 ~{OEBA} (in), 27 ~{CLKENBA} (in), 28 CLKBA (in)

## SN74ABT8952DW
designator U?
Scan Test Device with Octal Registered Bus Transceivers; Published: 8-Jun-2000; LatestRevisionDate: 13-Apr-2006; LatestRevisionNote: IPC-7351 Footprint Added.; DatasheetVersion: Jul-1996; PackageVersion: Mar-2000; PackageReference: DW028; Publisher: Altium Limited; PackageDescription: 28-Pin Plastic Small Outline Integrated Circuit 1.27 mm Pitch; Code_JEDEC: MS-013; ComponentLink1Description: Manufacturer Link; ComponentLink1URL: http://www.ti.com/; ComponentLink2Description: Datasheet; ComponentLink2URL: http://www-s.ti.com/sc/ds/sn74abt8952.pdf
footprint DW028_N (SOIC, 28-Leads, Body 17.9x7.5mm, Pitch 1.27mm, IPC Medium Density)
footprint DW028_L (SOIC, 28-Leads, Body 17.9x7.5mm, Pitch 1.27mm, IPC High Density)
footprint DW028_M (SOIC, 28-Leads, Body 17.9x7.5mm, Pitch 1.27mm, IPC Low Density)
3D model DW028 (28-Pin Plastic Small Outline Integrated Circuit 1.27 mm Pitch)
signal-integrity model SN74ABT8952DW
pins: 1 CLKAB (in), 2 ~{CLKENAB} (in), 3 ~{OEAB} (in), 4 A1 (io), 5 A2 (io), 6 A3 (io), 7 GND (power), 8 A4 (io), 9 A5 (io), 10 A6 (io), 11 A7 (io), 12 A8 (io), 13 TDO (hiz), 14 TMS (in), 15 TCK (in), 16 TDI (in), 17 B8 (io), 18 B7 (io), 19 B6 (io), 20 B5 (io), 21 VCC (power), 22 B4 (io), 23 B3 (io), 24 B2 (io), 25 B1 (io), 26 ~{OEBA} (in), 27 ~{CLKENBA} (in), 28 CLKBA (in)

## SN74ABT8996DW
designator U?
10-Bit Addressable Scan Port Multidrop-Addressable IEEE Std 1149.1 (JTAG) Tap Transceiver; Published: 8-Jun-2000; LatestRevisionDate: 13-Apr-2006; LatestRevisionNote: IPC-7351 Footprint Added.; DatasheetVersion: Apr-1999; PackageVersion: Mar-2000; PackageReference: DW024; Publisher: Altium Limited; PackageDescription: 24-Pin Plastic Small Outline Integrated Circuit 1.27 mm Pitch; Code_JEDEC: MS-013; ComponentLink1Description: Manufacturer Link; ComponentLink1URL: http://www.ti.com/; ComponentLink2Description: Datasheet; ComponentLink2URL: http://www-s.ti.com/sc/ds/sn74abt8996.pdf
footprint DW024_N (SOIC, 24-Leads, Body 15.4x7.5mm, Pitch 1.27mm, IPC Medium Density)
footprint DW024_L (SOIC, 24-Leads, Body 15.4x7.5mm, Pitch 1.27mm, IPC High Density)
footprint DW024_M (SOIC, 24-Leads, Body 15.4x7.5mm, Pitch 1.27mm, IPC Low Density)
3D model DW024 (24-Pin Plastic Small Outline Integrated Circuit 1.27 mm Pitch)
signal-integrity model SN74ABT8996DW
pins: 1 A4 (in), 2 A3 (in), 3 A2 (in), 4 A1 (in), 5 A0 (in), 6 ~{BYP} (in), 7 GND (power), 8 PTDO (hiz), 9 PTCK (in), 10 PTMS (in), 11 PTDI (in), 12 ~{PTRST} (hiz), 13 ~{STRST} (out), 14 STDO (hiz), 15 STMS (hiz), 16 STCK (out), 17 STDI (in), 18 ~{CON} (out), 19 VCC (power), 20 A9 (in), 21 A8 (in), 22 A7 (in), 23 A6 (in), 24 A5 (in)

## SN74ABT8996PWLE
designator U?
10-Bit Addressable Scan Port Multidrop-Addressable IEEE Std 1149.1 (JTAG) Tap Transceiver; ComponentAvailability: Obsolete; Published: 8-Jun-2000; LatestRevisionDate: 06-Jun-2005; LatestRevisionNote: Stylized 3D Model Added.; DatasheetVersion: Apr-1999; PackageVersion: Feb-1999; PackageReference: PW024; Publisher: Altium Limited; PackageDescription: Shrink Small Outline; 24 Leads; Body Width 4.4 mm; Pitch 0.65 mm; ComponentLink1Description: Manufacturer Link; ComponentLink1URL: http://www.ti.com/; ComponentLink2Description: Datasheet; ComponentLink2URL: http://www-s.ti.com/sc/ds/sn74abt8996.pdf
footprint PW024 (Shrink Small Outline; 24 Leads; Body Width 4.4 mm; Pitch 0.65 mm)
3D model PW024 (Shrink Small Outline; 24 Leads; Body Width 4.4 mm; Pitch 0.65 mm)
signal-integrity model SN74ABT8996PWLE
pins: 1 A4 (in), 2 A3 (in), 3 A2 (in), 4 A1 (in), 5 A0 (in), 6 ~{BYP} (in), 7 GND (power), 8 PTDO (hiz), 9 PTCK (in), 10 PTMS (in), 11 PTDI (in), 12 ~{PTRST} (hiz), 13 ~{STRST} (out), 14 STDO (hiz), 15 STMS (hiz), 16 STCK (out), 17 STDI (in), 18 ~{CON} (out), 19 VCC (power), 20 A9 (in), 21 A8 (in), 22 A7 (in), 23 A6 (in), 24 A5 (in)

## SN74ABT18245ADGGR
designator U?
Scan Test Device with 18-Bit Bus Transceiver; Published: 8-Jun-2000; LatestRevisionDate: 06-Jun-2005; LatestRevisionNote: Stylized 3D Model Added.; DatasheetVersion: Feb-1999; PackageVersion: Jan-1998; PackageReference: DGG056; Publisher: Altium Limited; PackageDescription: Shrink Small Outline; 56 Leads; Body Width 6.1 mm; Pitch 0.5 mm; ComponentLink1Description: Manufacturer Link; ComponentLink1URL: http://www.ti.com/; ComponentLink2Description: Datasheet; ComponentLink2URL: http://www-s.ti.com/sc/ds/sn74abt18245a.pdf
footprint DGG056 (Shrink Small Outline; 56 Leads; Body Width 6.1 mm; Pitch 0.5 mm)
3D model DGG056 (Shrink Small Outline; 56 Leads; Body Width 6.1 mm; Pitch 0.5 mm)
signal-integrity model SN74ABT18245ADGGR
pins: 1 1DIR (in), 2 1B1 (io), 3 1B2 (io), 4 GND (power), 5 1B3 (io), 6 1B4 (io), 7 VCC (power), 8 1B5 (io), 9 1B6 (io), 10 1B7 (io), 11 GND (power), 12 1B8 (io), 13 1B9 (io), 14 2B1 (io), 15 2B2 (io), 16 2B3 (io), 17 2B4 (io), 18 GND (power), 19 2B5 (io), 20 2B6 (io), 21 2B7 (io), 22 VCC (power), 23 2B8 (io), 24 2B9 (io), 25 GND (power), 26 2DIR (in), 27 TDO (hiz), 28 TMS (in), 29 TCK (in), 30 TDI (in), 31 2~{OE} (in), 32 GND (power), 33 2A9 (io), 34 2A8 (io), 35 VCC (power), 36 2A7 (io), 37 2A6 (io), 38 2A5 (io), 39 GND (power), 40 2A4 (io), 41 2A3 (io), 42 2A2 (io), 43 2A1 (io), 44 1A9 (io), 45 1A8 (io), 46 GND (power), 47 1A7 (io), 48 1A6 (io), 49 1A5 (io), 50 VCC (power), 51 1A4 (io), 52 1A3 (io), 53 GND (power), 54 1A2 (io), 55 1A1 (io), 56 1~{OE} (in)

## SN74ABT18245ADL
designator U?
Scan Test Device with 18-Bit Bus Transceiver; Published: 8-Jun-2000; LatestRevisionDate: 06-Jun-2005; LatestRevisionNote: Stylized 3D Model Added.; DatasheetVersion: Feb-1999; PackageVersion: Dec-2001; PackageReference: DL056; Publisher: Altium Limited; PackageDescription: SSOP; 56 Leads; Body Width 7.5 mm; Pitch 0.635 mm; Code_JEDEC: MO-118-AB; Code_IPC: SSO56; ComponentLink1Description: Manufacturer Link; ComponentLink1URL: http://www.ti.com/; ComponentLink2Description: Datasheet; ComponentLink2URL: http://www-s.ti.com/sc/ds/sn74abt18245a.pdf
footprint DL056 (SSOP; 56 Leads; Body Width 7.5 mm; Pitch 0.635 mm)
3D model DL056 (SSOP; 56 Leads; Body Width 7.5 mm; Pitch 0.635 mm)
signal-integrity model SN74ABT18245ADL
pins: 1 1DIR (in), 2 1B1 (io), 3 1B2 (io), 4 GND (power), 5 1B3 (io), 6 1B4 (io), 7 VCC (power), 8 1B5 (io), 9 1B6 (io), 10 1B7 (io), 11 GND (power), 12 1B8 (io), 13 1B9 (io), 14 2B1 (io), 15 2B2 (io), 16 2B3 (io), 17 2B4 (io), 18 GND (power), 19 2B5 (io), 20 2B6 (io), 21 2B7 (io), 22 VCC (power), 23 2B8 (io), 24 2B9 (io), 25 GND (power), 26 2DIR (in), 27 TDO (hiz), 28 TMS (in), 29 TCK (in), 30 TDI (in), 31 2~{OE} (in), 32 GND (power), 33 2A9 (io), 34 2A8 (io), 35 VCC (power), 36 2A7 (io), 37 2A6 (io), 38 2A5 (io), 39 GND (power), 40 2A4 (io), 41 2A3 (io), 42 2A2 (io), 43 2A1 (io), 44 1A9 (io), 45 1A8 (io), 46 GND (power), 47 1A7 (io), 48 1A6 (io), 49 1A5 (io), 50 VCC (power), 51 1A4 (io), 52 1A3 (io), 53 GND (power), 54 1A2 (io), 55 1A1 (io), 56 1~{OE} (in)

## SN74ABT18640DGGR
designator U?
Scan Test Device with 18-Bit Inverting Bus Transceiver; Published: 8-Jun-2000; LatestRevisionDate: 06-Jun-2005; LatestRevisionNote: Stylized 3D Model Added.; DatasheetVersion: Jul-1996; PackageVersion: Jan-1998; PackageReference: DGG056; Publisher: Altium Limited; PackageDescription: Shrink Small Outline; 56 Leads; Body Width 6.1 mm; Pitch 0.5 mm; ComponentLink1Description: Manufacturer Link; ComponentLink1URL: http://www.ti.com/; ComponentLink2Description: Datasheet; ComponentLink2URL: http://www-s.ti.com/sc/ds/sn74abt18640.pdf
footprint DGG056 (Shrink Small Outline; 56 Leads; Body Width 6.1 mm; Pitch 0.5 mm)
3D model DGG056 (Shrink Small Outline; 56 Leads; Body Width 6.1 mm; Pitch 0.5 mm)
signal-integrity model SN74ABT18640DGGR
pins: 1 1DIR (in), 2 1B1 (io), 3 1B2 (io), 4 GND (power), 5 1B3 (io), 6 1B4 (io), 7 VCC (power), 8 1B5 (io), 9 1B6 (io), 10 1B7 (io), 11 GND (power), 12 1B8 (io), 13 1B9 (io), 14 2B1 (io), 15 2B2 (io), 16 2B3 (io), 17 2B4 (io), 18 GND (power), 19 2B5 (io), 20 2B6 (io), 21 2B7 (io), 22 VCC (power), 23 2B8 (io), 24 2B9 (io), 25 GND (power), 26 2DIR (in), 27 TDO (hiz), 28 TMS (in), 29 TCK (in), 30 TDI (in), 31 2~{OE} (in), 32 GND (power), 33 2A9 (io), 34 2A8 (io), 35 VCC (power), 36 2A7 (io), 37 2A6 (io), 38 2A5 (io), 39 GND (power), 40 2A4 (io), 41 2A3 (io), 42 2A2 (io), 43 2A1 (io), 44 1A9 (io), 45 1A8 (io), 46 GND (power), 47 1A7 (io), 48 1A6 (io), 49 1A5 (io), 50 VCC (power), 51 1A4 (io), 52 1A3 (io), 53 GND (power), 54 1A2 (io), 55 1A1 (io), 56 1~{OE} (in)

## SN74ABT18640DL
designator U?
Scan Test Device with 18-Bit Inverting Bus Transceivers; Published: 8-Jun-2000; LatestRevisionDate: 06-Jun-2005; LatestRevisionNote: Stylized 3D Model Added.; DatasheetVersion: Jul-1996; PackageVersion: Dec-2001; PackageReference: DL056; Publisher: Altium Limited; PackageDescription: SSOP; 56 Leads; Body Width 7.5 mm; Pitch 0.635 mm; Code_JEDEC: MO-118-AB; Code_IPC: SSO56; ComponentLink1Description: Manufacturer Link; ComponentLink1URL: http://www.ti.com/; ComponentLink2Description: Datasheet; ComponentLink2URL: http://www-s.ti.com/sc/ds/sn74abt18640.pdf
footprint DL056 (SSOP; 56 Leads; Body Width 7.5 mm; Pitch 0.635 mm)
3D model DL056 (SSOP; 56 Leads; Body Width 7.5 mm; Pitch 0.635 mm)
signal-integrity model SN74ABT18640DL
pins: 1 1DIR (in), 2 1B1 (io), 3 1B2 (io), 4 GND (power), 5 1B3 (io), 6 1B4 (io), 7 VCC (power), 8 1B5 (io), 9 1B6 (io), 10 1B7 (io), 11 GND (power), 12 1B8 (io), 13 1B9 (io), 14 2B1 (io), 15 2B2 (io), 16 2B3 (io), 17 2B4 (io), 18 GND (power), 19 2B5 (io), 20 2B6 (io), 21 2B7 (io), 22 VCC (power), 23 2B8 (io), 24 2B9 (io), 25 GND (power), 26 2DIR (in), 27 TDO (hiz), 28 TMS (in), 29 TCK (in), 30 TDI (in), 31 2~{OE} (in), 32 GND (power), 33 2A9 (io), 34 2A8 (io), 35 VCC (power), 36 2A7 (io), 37 2A6 (io), 38 2A5 (io), 39 GND (power), 40 2A4 (io), 41 2A3 (io), 42 2A2 (io), 43 2A1 (io), 44 1A9 (io), 45 1A8 (io), 46 GND (power), 47 1A7 (io), 48 1A6 (io), 49 1A5 (io), 50 VCC (power), 51 1A4 (io), 52 1A3 (io), 53 GND (power), 54 1A2 (io), 55 1A1 (io), 56 1~{OE} (in)

## SN74ABTH18502APM
designator U?
Scan Test Device with 18-Bit Universal Bus Transceivers; Published: 8-Jun-2000; LatestRevisionDate: 13-Apr-2006; LatestRevisionNote: IPC-7351 Footprint Added.; DatasheetVersion: Dec-1996; PackageVersion: Dec-1996; PackageReference: PM064; Publisher: Altium Limited; PackageDescription: 64-Pin Thin Quad Flat Pack 0.5 mm Pitch; ComponentLink1Description: Manufacturer Link; ComponentLink1URL: http://www.ti.com/; ComponentLink2Description: Datasheet; ComponentLink2URL: http://www-s.ti.com/sc/ds/sn74abth18502a.pdf
footprint PM064_N (Thin QFP, 64-Leads, Body 10x10mm, Pitch 0.5mm, IPC Medium Density)
footprint PM064_L (Thin QFP, 64-Leads, Body 10x10mm, Pitch 0.5mm, IPC High Density)
footprint PM064_M (Thin QFP, 64-Leads, Body 10x10mm, Pitch 0.5mm, IPC Low Density)
3D model SN74ABTH18502A-PM064 (64-Pin Thin Quad Flat Pack 0.5 mm Pitch)
pins: 1 1A3 (io), 2 1A4 (io), 3 1A5 (io), 4 GND (power), 5 1A6 (io), 6 1A7 (io), 7 1A8 (io), 8 1A9 (io), 9 VCC (power), 10 2A1 (io), 11 2A2 (io), 12 2A3 (io), 13 GND (power), 14 2A4 (io), 15 2A5 (io), 16 2A6 (io), 17 2A7 (io), 18 2A8 (io), 19 2A9 (io), 20 GND (power), 21 ~{2OEAB} (in), 22 2LEAB (in), 23 2CLKAB (in), 24 TDI (in), 25 VCC (power), 26 TCK (in), 27 2CLKBA (in), 28 2LEBA (in), 29 GND (power), 30 ~{2OEBA} (in), 31 2B9 (io), 32 2B8 (io), 33 2B7 (io), 34 2B6 (io), 35 2B5 (io), 36 GND (power), 37 2B4 (io), 38 2B3 (io), 39 2B2 (io), 40 2B1 (io), 41 VCC (power), 42 1B9 (io), 43 1B8 (io), 44 1B7 (io), 45 GND (power), 46 1B6 (io), 47 1B5 (io), 48 1B4 (io), 49 1B3 (io), 50 1B2 (io), 51 1B1 (io), 52 GND (power), 53 ~{1OEBA} (in), 54 1LEBA (in), 55 1CLKBA (in), 56 TMS (in), 57 VCC (power), 58 TDO (hiz), 59 1CLKAB (in), 60 1LEAB (in), 61 GND (power), 62 ~{1OEAB} (in), 63 1A1 (io), 64 1A2 (io)

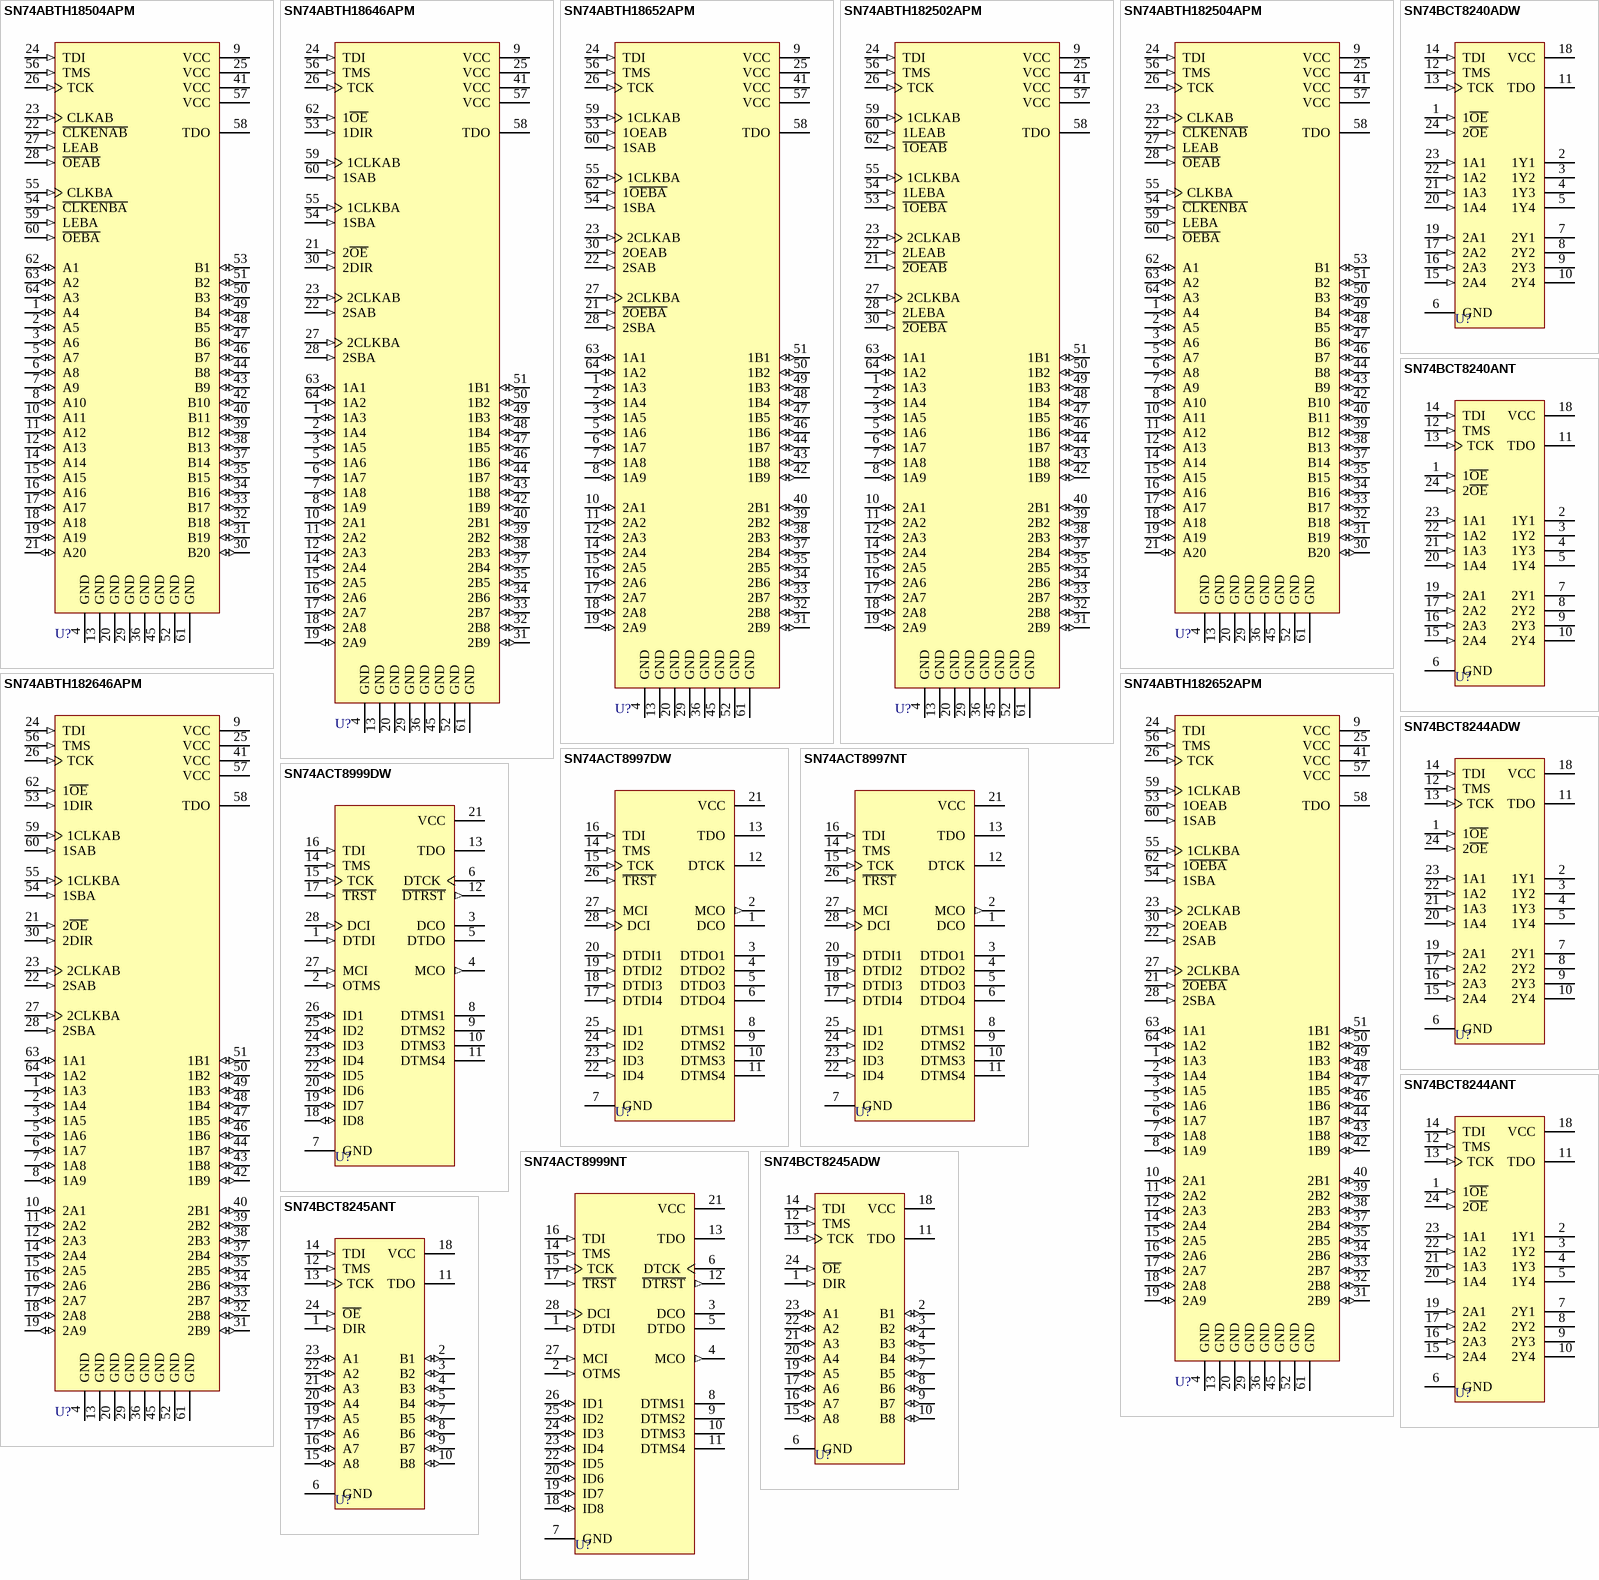
[diagram p2: symbols SN74ABTH18504APM to SN74BCT8245ANT]

## SN74ABTH18504APM
designator U?
Scan Test Device with 20-Bit Universal Bus Transceiver; Published: 8-Jun-2000; LatestRevisionDate: 13-Apr-2006; LatestRevisionNote: IPC-7351 Footprint Added.; DatasheetVersion: Jul-1996; PackageVersion: Dec-1996; PackageReference: PM064; Publisher: Altium Limited; PackageDescription: 64-Pin Thin Quad Flat Pack 0.5 mm Pitch; ComponentLink1Description: Manufacturer Link; ComponentLink1URL: http://www.ti.com/; ComponentLink2Description: Datasheet; ComponentLink2URL: http://www-s.ti.com/sc/ds/sn74abth18504a.pdf
footprint PM064_N (Thin QFP, 64-Leads, Body 10x10mm, Pitch 0.5mm, IPC Medium Density)
footprint PM064_L (Thin QFP, 64-Leads, Body 10x10mm, Pitch 0.5mm, IPC High Density)
footprint PM064_M (Thin QFP, 64-Leads, Body 10x10mm, Pitch 0.5mm, IPC Low Density)
3D model SN74ABTH18504A-PM064 (64-Pin Thin Quad Flat Pack 0.5 mm Pitch)
pins: 1 A4 (io), 2 A5 (io), 3 A6 (io), 4 GND (power), 5 A7 (io), 6 A8 (io), 7 A9 (io), 8 A10 (io), 9 VCC (power), 10 A11 (io), 11 A12 (io), 12 A13 (io), 13 GND (power), 14 A14 (io), 15 A15 (io), 16 A16 (io), 17 A17 (io), 18 A18 (io), 19 A19 (io), 20 GND (power), 21 A20 (io), 22 ~{CLKENAB} (in), 23 CLKAB (in), 24 TDI (in), 25 VCC (power), 26 TCK (in), 27 LEAB (in), 28 ~{OEAB} (in), 29 GND (power), 30 B20 (io), 31 B19 (io), 32 B18 (io), 33 B17 (io), 34 B16 (io), 35 B15 (io), 36 GND (power), 37 B14 (io), 38 B13 (io), 39 B12 (io), 40 B11 (io), 41 VCC (power), 42 B10 (io), 43 B9 (io), 44 B8 (io), 45 GND (power), 46 B7 (io), 47 B6 (io), 48 B5 (io), 49 B4 (io), 50 B3 (io), 51 B2 (io), 52 GND (power), 53 B1 (io), 54 ~{CLKENBA} (in), 55 CLKBA (in), 56 TMS (in), 57 VCC (power), 58 TDO (hiz), 59 LEBA (in), 60 ~{OEBA} (in), 61 GND (power), 62 A1 (io), 63 A2 (io), 64 A3 (io)